# Altium schematic symbol library Диоды-mm.SchLib: 39 symbols
Pins are listed as number, name and electrical type; pins without a type are passive.

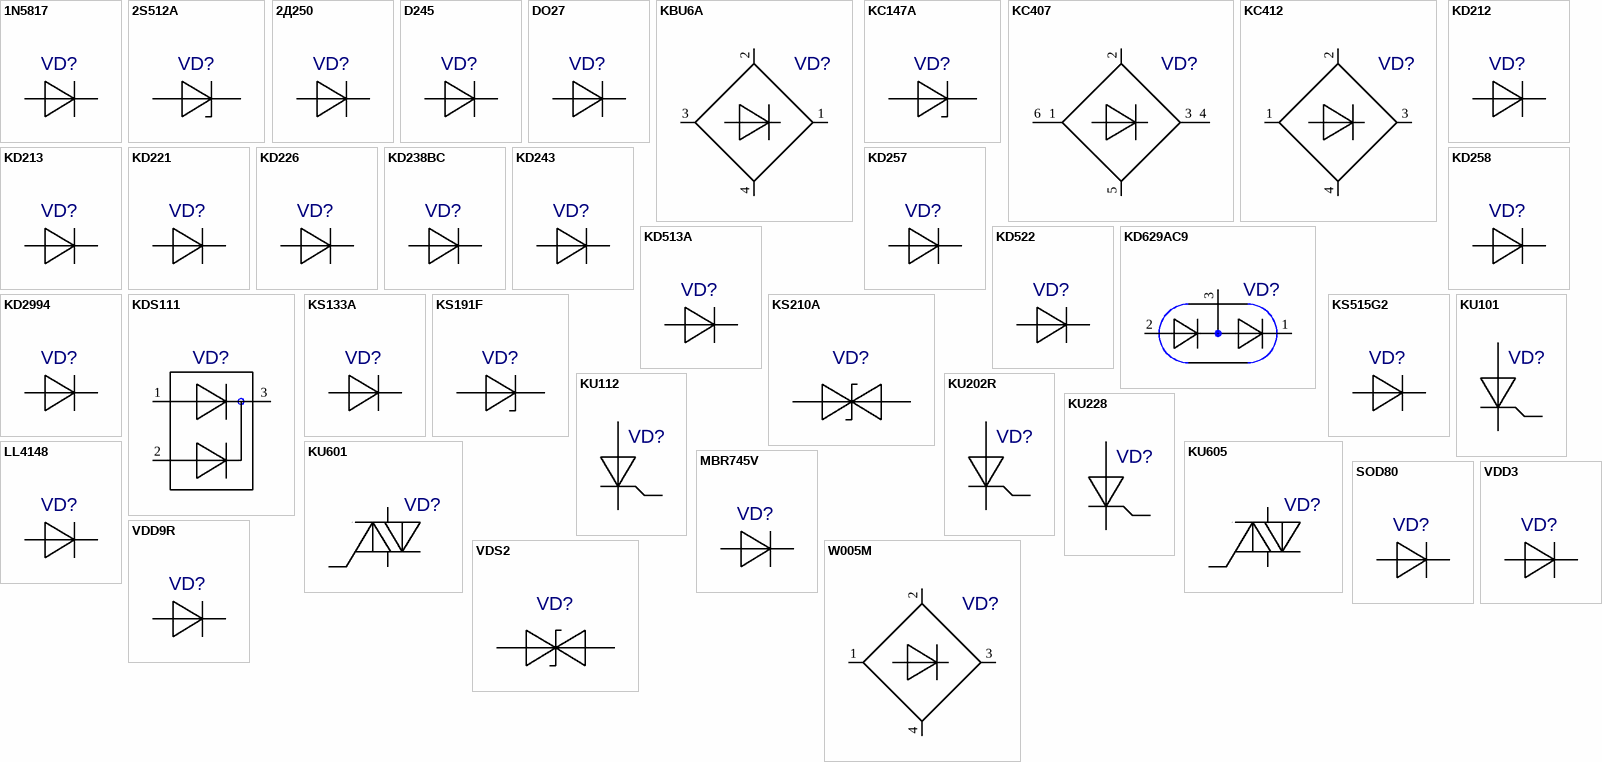
[diagram p0: symbols 1N5817 to W005M]

## 1N5817
designator VD?  (value not drawn)
Value: *
footprint 1N5817_12.5mm
footprint 1N5817_15mm
footprint 1N5817_2.5mm_vert
footprint 1N5817_5mm_ver1
footprint 1N5817_5mm_vert2
footprint 1N5817_Primary
pins: 1 I/O1, 2 I/O2

## 2S512A
designator VD?  (value not drawn)
Value: *
footprint 2S512A
pins: 1 I/O1, 2 I/O2

## 2Д250
designator VD?  (value not drawn)
Value: *
footprint 2Д520_2Д250(Primary)
pins: 1 I/O2, 2 I/O1

## D245
designator VD?  (value not drawn)
Value: *
footprint D245
pins: 1 I/O1, 2 I/O2

## DO27
designator VD?  (value not drawn)
Value: *
footprint DO27_DO27(Primary)
pins: 1 I/O1, 2 I/O2

## KBU6A
designator VD?  (value not drawn)
Value: *
footprint KBU6A
pins: 1, 2, 3, 4

## KC147A
designator VD?  (value not drawn)
Value: *
footprint VDD_10mm
footprint VDD_12.5mm
footprint VDD_2.5mmVert
footprint VDD_5mmVert1
footprint VDD_5mmVert2
footprint VDD_7.5mm
footprint VDD_Primary
pins: 1 I/O1, 2 I/O2

## KC407
designator VD?  (value not drawn)
Value: *
footprint KC407
pins: 1 I/O1, 2 I/O2, 3 I/O3, 4 I/O4, 5 I/O5, 6 I/O6

## KC412
designator VD?  (value not drawn)
Value: *
footprint KC412
pins: 1 I/O1, 2 I/O2, 3 I/O3, 4 I/O4

## KD212
designator VD?  (value not drawn)
Value: *
footprint KD212
pins: 1 I/O1, 2 I/O2

## KD213
designator VD?  (value not drawn)
Value: *
footprint KD213_KD213-1
footprint KD213_Primary
pins: 1 I/O1, 2 I/O2

## KD221
designator VD?  (value not drawn)
Value: *
footprint VDD7
pins: 1 I/O1, 2 I/O2

## KD226
designator VD?  (value not drawn)
Value: *
footprint VDD5
pins: 1 I/O1, 2 I/O2

## KD238BC
designator VD?  (value not drawn)
Value: *
footprint KT28-1_KT28-1R
footprint KT28-1_Primary
pins: 1 I/O2, 2 I/O1, 3 hidden

## KD243
designator VD?  (value not drawn)
Value: *
footprint VDD4_Primary
footprint VDD4_VDD4A
pins: 1 I/O1, 2 I/O2

## KD257
designator VD?  (value not drawn)
Value: *
footprint KD257_KD257-1
footprint KD257_Primary
pins: 1 I/O1, 2 I/O2

## KD258
designator VD?  (value not drawn)
Value: *
footprint KD258
pins: 1 I/O1, 2 I/O2

## KD513A
designator VD?  (value not drawn)
Value: *
footprint KD513A
pins: 1 I/O1, 2 I/O2

## KD522
designator VD?  (value not drawn)
Value: *
footprint VDD10_12.5mm
footprint VDD10_15mm
footprint VDD10_2.5mm_v
footprint VDD10_5mm_v1
footprint VDD10_5mm_v2
footprint VDD10_7.5mm
footprint VDD10_Primary
pins: 1 I/O1, 2 I/O2

## KD629AC9
designator VD?  (value not drawn)
Value: *
footprint SOT23A
pins: 1, 2, 3

## KD2994
designator VD?  (value not drawn)
Value: *
footprint KD2994_KD2994R
footprint KD2994_Primary
pins: 1 I/O1, 2 I/O2

## KDS111
designator VD?  (value not drawn)
Value: *
footprint KDS111
pins: 1 I/O1, 2 I/O2, 3 I/O3

## KS133A
designator VD?  (value not drawn)
Value: *
footprint VDD2
pins: 1 I/O1, 2 I/O2

## KS191F
designator VD?  (value not drawn)
Value: *
footprint KS191F
pins: 1 I/O1, 2 I/O2

## KS210A
designator VD?  (value not drawn)
Value: *
footprint KS210A
pins: 1 I/O1, 2 I/O2

## KS515G2
designator VD?  (value not drawn)
Value: *
footprint VDD6_Primary
footprint VDD6_VDD6R
pins: 1 I/O1, 2 I/O2

## KU101
designator VD?  (value not drawn)
Value: *
footprint KU101
pins: 1 I/OA, 2 I/OB, 3 IN

## KU112
designator VD?  (value not drawn)
Value: *
footprint KU112
pins: 1 I/OA, 2 I/OB, 3 IN

## KU202R
designator VD?  (value not drawn)
Value: *
footprint KU202R
pins: 1 I/OA, 2 I/OB, 3 IN, 4 hidden, 5 hidden

## KU228
designator VD?  (value not drawn)
Value: *
footprint KT28-1_KT28-1R
footprint KT28-1_Primary
pins: 1 I/OA, 2 I/OB, 3 IN

## KU601
designator VD?  (value not drawn)
Value: *
footprint KT28-1_KT28-1R
footprint KT28-1_Primary
pins: 1 I/OA, 2 I/OB, 3 IN

## KU605
designator VD?  (value not drawn)
Value: *
footprint KT28-1_KT28-1R
footprint KT28-1_Primary
pins: 1 I/OA, 2 I/OB, 3 IN

## LL4148
designator VD?  (value not drawn)
Value: *
footprint LL4148
pins: 1 I/O1, 2 I/O2

## MBR745V
designator VD?  (value not drawn)
Value: *
footprint MBR745V
pins: 1 I/O2, 2 I/O1

## SOD80
designator VD?  (value not drawn)
Value: *
footprint SOD80
pins: 1 I/O1, 2 I/O2

## VDD3
designator VD?  (value not drawn)
Value: *
footprint VDD3
pins: 1 I/O1, 2 I/O2

## VDD9R
designator VD?  (value not drawn)
Value: *
footprint VDD9R
pins: 1 I/O1, 2 I/O2, 3 hidden

## VDS2
designator VD?  (value not drawn)
Value: *
footprint VDS2_Primary
footprint VDS2_VDS2-1
pins: 1 I/O1, 2 I/O2

## W005M
designator VD?  (value not drawn)
Value: *
footprint W005M_Primary
footprint W005M_W005M-1
pins: 1 I/O1, 2 I/O2, 3 I/O3, 4 I/O4